# Altium schematic symbol library ESP32-Pico-Pill.SchLib: 18 symbols
Pins are listed as number, name and electrical type; pins without a type are passive.

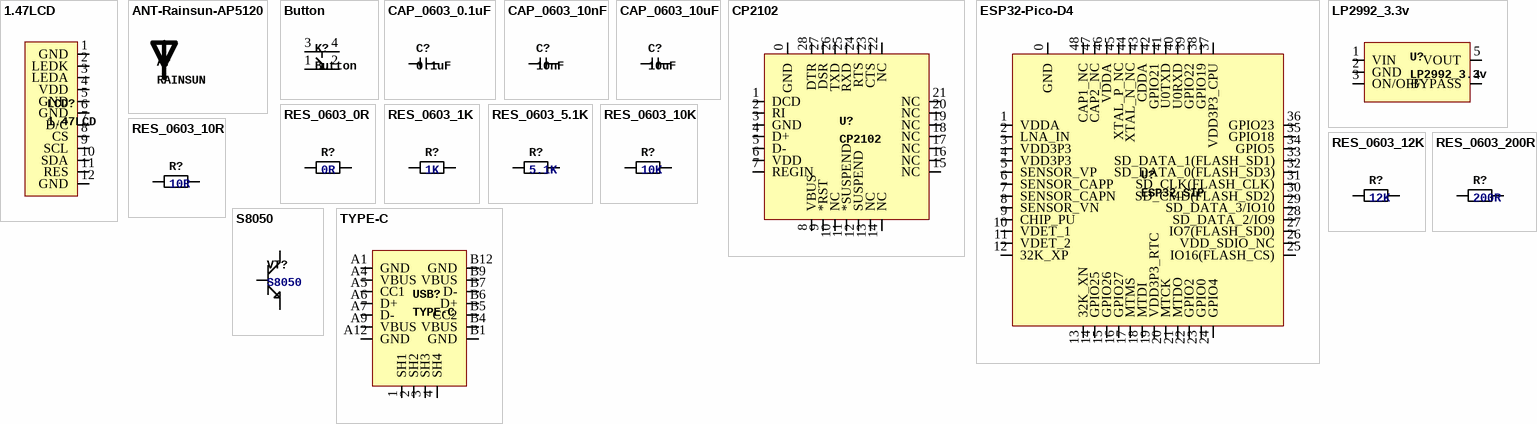
[diagram p0: symbols 1.47LCD to TYPE-C]

## 1.47LCD
designator LCD?
footprint IPS130-12 (IPS LCD屏焊盘)
pins: 1 GND, 2 LEDK, 3 LEDA, 4 VDD, 5 GND, 6 GND, 7 D/C, 8 CS, 9 SCL, 10 SDA, 11 RES, 12 GND

## ANT-Rainsun-AP5120
designator A?, comment RAINSUN
footprint ANT-Rainsun-AN5120 (RAINSUN)
pins: 1

## Button
designator K?
中乌龟4.8x3.6x4.6mm
footprint Button (中乌龟4.8x3.6x4.6mm)
pins: 1, 2, 3, 4

## CAP_0603_0.1uF
designator C?, comment 0.1uF
footprint CAP_0603 (0603 Capacitor)
pins: 1, 2

## CAP_0603_10nF
designator C?, comment 10nF
footprint CAP_0603 (0603 Capacitor)
pins: 1, 2

## CAP_0603_10uF
designator C?, comment 10uF
footprint CAP_0603 (0603 Capacitor)
pins: 1, 2

## CP2102
designator U?
footprint CP2102 (QFN28)
pins: 0 GND, 1 DCD, 2 RI, 3 GND, 4 D+, 5 D-, 6 VDD, 7 REGIN, 8 VBUS, 9 *RST, 10 NC, 11 *SUSPEND, 12 SUSPEND, 13 NC, 14 NC, 15 NC, 16 NC, 17 NC, 18 NC, 19 NC, 20 NC, 21 NC, 22 NC, 23 CTS, 24 RTS, 25 RXD, 26 TXD, 27 DSR, 28 DTR

## ESP32-Pico-D4
designator U?, comment ESP32_SIP
footprint ESP32-Pico (QFN-48_7X7)
pins: 0 GND, 1 VDDA, 2 LNA_IN, 3 VDD3P3, 4 VDD3P3, 5 SENSOR_VP, 6 SENSOR_CAPP, 7 SENSOR_CAPN, 8 SENSOR_VN, 9 CHIP_PU, 10 VDET_1, 11 VDET_2, 12 32K_XP, 13 32K_XN, 14 GPIO25, 15 GPIO26, 16 GPIO27, 17 MTMS, 18 MTDI, 19 VDD3P3_RTC, 20 MTCK, 21 MTDO, 22 GPIO2, 23 GPIO0, 24 GPIO4, 25 IO16(FLASH_CS), 26 VDD_SDIO_NC, 27 IO7(FLASH_SD0), 28 SD_DATA_2/IO9, 29 SD_DATA_3/IO10, 30 SD_CMD(FLASH_SD2), 31 SD_CLK(FLASH_CLK), 32 SD_DATA_0(FLASH_SD3), 33 SD_DATA_1(FLASH_SD1), 34 GPIO5, 35 GPIO18, 36 GPIO23, 37 VDD3P3_CPU, 38 GPIO19, 39 GPIO22, 40 U0RXD, 41 U0TXD, 42 GPIO21, 43 CDDA, 44 XTAL_N_NC, 45 XTAL_P_NC, 46 VDDA, 47 CAP2_NC, 48 CAP1_NC

## LP2992_3.3v
designator U?
footprint LP2992 (LP2992_3.3v)
pins: 1 VIN, 2 GND, 3 ON/OFF, 4 BYPASS, 5 VOUT

## RES_0603_0R
designator R?, comment 0R
footprint RES_0603 (0603 Resistor)
pins: 1, 2

## RES_0603_1K
designator R?, comment 1K
footprint RES_0603 (0603 Resistor)
pins: 1, 2

## RES_0603_5.1K
designator R?, comment 5.1K
footprint RES_0603 (0603 Resistor)
pins: 1, 2

## RES_0603_10K
designator R?, comment 10K
footprint RES_0603 (0603 Resistor)
pins: 1, 2

## RES_0603_10R
designator R?, comment 10R
footprint RES_0603 (0603 Resistor)
pins: 1, 2

## RES_0603_12K
designator R?, comment 12K
footprint RES_0603 (0603 Resistor)
pins: 1, 2

## RES_0603_200R
designator R?, comment 200R
footprint RES_0603 (0603 Resistor)
pins: 1, 2

## S8050
designator VT?
SOT23
footprint s8050 (SOT23)
pins: 1 C, 2 E, 3 B

## TYPE-C
designator USB?
TYPE-C  16P
footprint TYPE-C (TYPE-C 16P)
pins: 1 SH1, 2 SH2, 3 SH3, 4 SH4, A1 GND, A4 VBUS, A5 CC1, A6 D+, A7 D-, A9 VBUS, A12 GND, B1 GND, B4 VBUS, B5 CC2, B6 D+, B7 D-, B9 VBUS, B12 GND